# Altium footprint library CMT-7525-80-SMT.PcbLib: 1 footprints
Each footprint in its own frame and in the unit in brackets; x right, y up, seen from the top. Pads: shape width x height; smd on the part's side, far side on the other; paste and mask are expansions set on the pad; w line width, h text height; cw(c..) or ccw(c..) is an arc to the next point about the centre after c.
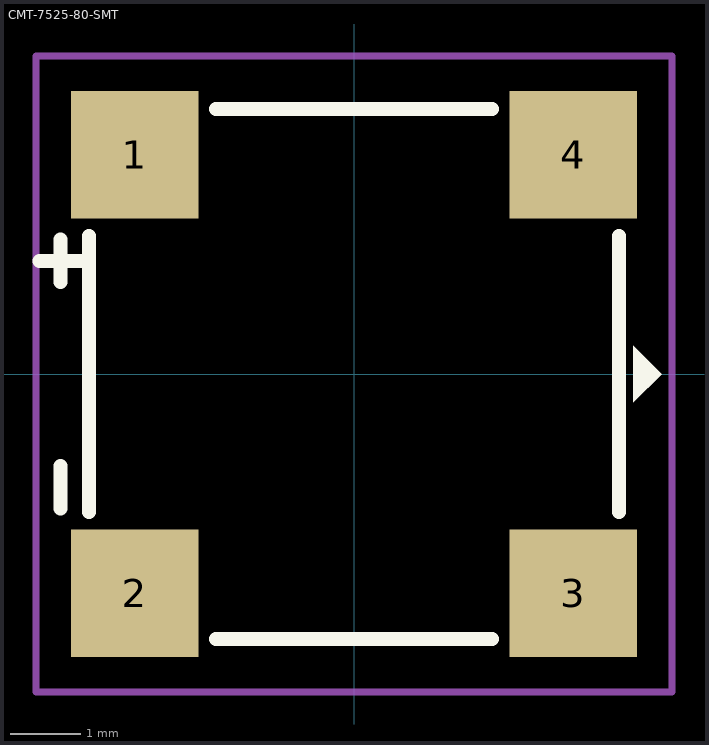
[diagram p0: the footprint, top view; thin cyan lines are the x and y axes]

## CMT-7525-80-SMT [mm]
height 2.5
pads (4):
  rect 1.8x1.8 smd: 1(-3.1,3.1) 2(-3.1,-3.1) 3(3.1,-3.1) 4(3.1,3.1)
Top Overlay:
  region: 3.95,-0.4 3.95,0.4 4.35,0
  lines w0.2: -4.45,1.6 -3.85,1.6 ; -4.15,-1.9 -4.15,-1.3 ; -4.15,1.3 -4.15,1.9 ; -3.75,-1.95 -3.75,1.95 ; -1.95,-3.75 1.95,-3.75 ; -1.95,3.75 1.95,3.75 ; 3.75,-1.95 3.75,1.95
Top Courtyard:
  lines w0.1: -4.5,-3.925 -4.5,-4.5 ; -3.95,-4.5 -4.5,-4.5 ; 3.95,4.5 4.5,4.5 ; 4.5,3.925 4.5,4.5 ; -4.5,-4.5 4.5,-4.5 4.5,4.5 ; -4.5,-4.5 -4.5,4.5 4.5,4.5
3D body "CUI_DEVICES_CMT-7525-80-SMT-TR.step": height 2.5, standoff 0, extent -3.75,-3.75 3.75,3.75